# EAGLE library part QPA2962 (library My_Library_RADAR)
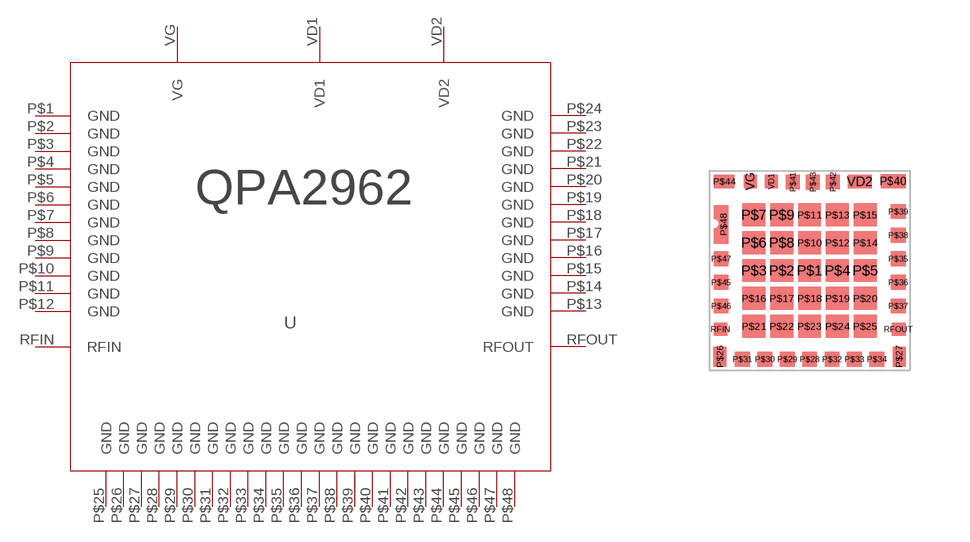
[diagram p17: symbol with the pads of QPA2962; footprint QPA2962]

Designator prefix -

## QPA2962  [QPA2962]
P$1  GND
P$2  GND
P$3  GND
P$4  GND
P$5  GND
P$6  GND
P$7  GND
P$8  GND
P$9  GND
P$10  GND
P$11  GND
P$12  GND
P$13  GND
P$14  GND
P$15  GND
P$16  GND
P$17  GND
P$18  GND
P$19  GND
P$20  GND
P$21  GND
P$22  GND
P$23  GND
P$24  GND
P$25  GND
P$26  GND
P$27  GND
P$28  GND
P$29  GND
P$30  GND
P$31  GND
P$32  GND
P$33  GND
P$34  GND
P$35  GND
P$36  GND
P$37  GND
P$38  GND
P$39  GND
P$40  GND
P$41  GND
P$42  GND
P$43  GND
P$44  GND
P$45  GND
P$46  GND
P$47  GND
P$48  GND
RFIN  RFIN
RFOUT  RFOUT
VD1  VD1
VD2  VD2
VG  VG

## Footprint QPA2962 (pad centres in mm)
smd 0.57 x 0.57: P$1 0,0; P$2 -0.696,0; P$3 -1.392,0; P$4 0.696,0; P$5 1.392,0; P$6 -1.392,0.696; P$7 -1.392,1.392; P$8 -0.696,0.696; P$9 -0.696,1.392; P$10 0,0.696; P$11 0,1.392; P$12 0.696,0.696; P$13 0.696,1.392; P$14 1.392,0.696; P$15 1.392,1.392; P$16 -1.392,-0.696; P$17 -0.696,-0.696; P$18 0,-0.696; P$19 0.696,-0.696; P$20 1.392,-0.696; P$21 -1.392,-1.392; P$22 -0.696,-1.392; P$23 0,-1.392; P$24 0.696,-1.392; P$25 1.392,-1.392
smd 0.32 x 0.5: P$26 -2.24,-2.15; P$27 2.24,-2.15
smd 0.37 x 0.37: P$28 0,-2.215; P$29 -0.56,-2.215; P$30 -1.12,-2.215; P$31 -1.68,-2.215; P$32 0.56,-2.215; P$33 1.12,-2.215; P$34 1.68,-2.215; P$35 2.215,0.295; P$36 2.215,-0.295; P$37 2.215,-0.885; P$38 2.215,0.885; P$39 2.215,1.475; P$45 -2.215,-0.295; P$46 -2.215,-0.885; P$47 -2.215,0.295
smd 0.624 x 0.344: P$40 2.088,2.228
smd 0.345 x 0.37: P$41 -0.421,2.213; P$42 0.582,2.213; P$43 0.081,2.209
smd 0.51 x 0.345: P$44 -2.133,2.223
smd 0.24 x 0.937: P$48 -2.15,1.15
smd 0.345 x 0.32: RFIN -2.228,-1.465; RFOUT 2.228,-1.465
smd 0.32 x 0.345: VD1 -0.96,2.228; VG -1.48,2.228
smd 0.59 x 0.345: VD2 1.255,2.228